# Altium footprint library SSL310A.PcbLib: 1 footprints
Each footprint in its own frame and in the unit in brackets; x right, y up, seen from the top. Pads: shape width x height; smd on the part's side, far side on the other; paste and mask are expansions set on the pad; w line width, h text height; cw(c..) or ccw(c..) is an arc to the next point about the centre after c.
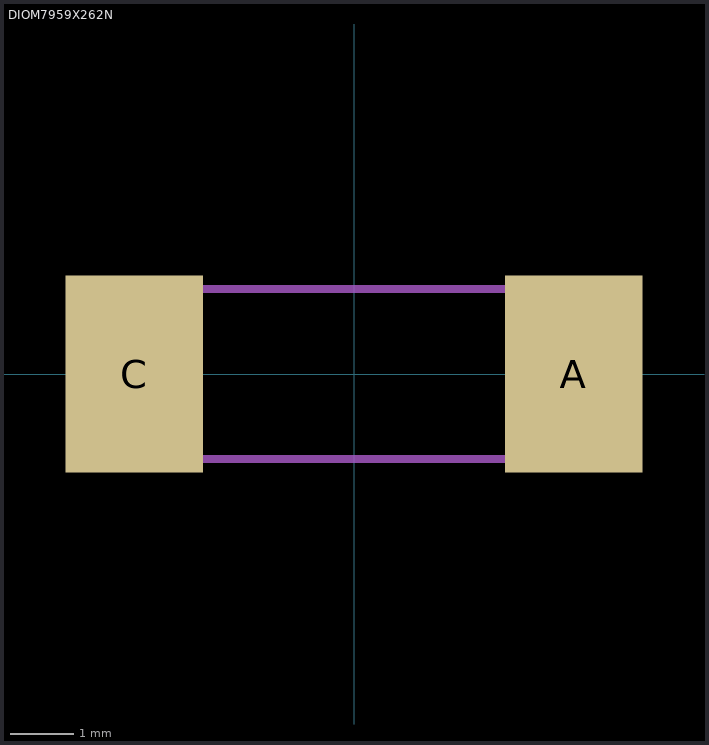
[diagram p0: the footprint, top view; thin cyan lines are the x and y axes]

## DIOM7959X262N [mm]
pads (2):
  rect 2.18x3.12 smd: A(3.485,0) C(-3.485,0)
Mechanical 1:
  circle w0.2: c-3.302,0 r0.1
  lines w0.127: -2.5,-1.35 2.5,-1.35 2.5,1.35 -2.5,1.35 -2.5,-1.35
3D body "SSL310A.step": height 2.21, standoff 0, extent -2.5,-1.35 2.5,1.35